# EAGLE library part BLUETOOTH_BOARD (library Bluetooth_HC-05)
Bluetooth Board V1.05
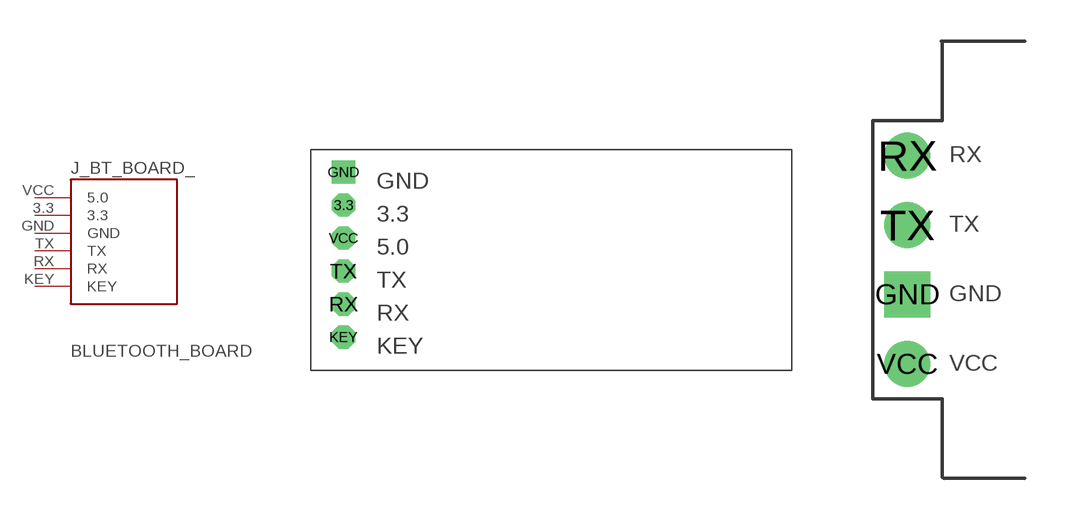
[diagram p1: symbol with the pads of BT_BOARD_FOOTPRINT; footprints BT_BOARD_FOOTPRINT, BT_BOARD_FOOTPRINT_STANDING]

Designator prefix J_BT_BOARD_

## BLUETOOTH_BOARD  [BT_BOARD_FOOTPRINT]
3.3  3.3
GND  GND
KEY  KEY
RX  RX
TX  TX
VCC  5.0

## BLUETOOTH_BOARDSTANDING  [BT_BOARD_FOOTPRINT_STANDING]
GND  GND
RX  RX
TX  TX
VCC  5.0

## Footprint BT_BOARD_FOOTPRINT (pad centres in mm)
Bluetooth Board V1.05 Footprint
drill 1.016 pad 1.778 octagon: 3.3 2.54,12.7; KEY 2.54,2.54; RX 2.54,5.08; TX 2.54,7.62; VCC 2.54,10.16
drill 1.016 pad 1.778 square: GND 2.54,15.24

## Footprint BT_BOARD_FOOTPRINT_STANDING (pad centres in mm)
drill 0.9 pad 1.676 square: GND -3.81,-1.27
drill 0.9 pad 1.676: RX -3.81,3.81; TX -3.81,1.27; VCC -3.81,-3.81